# Altium footprint library CONTROLLER_PCB_LIB.PcbLib: 18 footprints (part 1 of 2)
Each footprint in its own frame and in the unit in brackets; x right, y up, seen from the top. Pads: shape width x height; smd on the part's side, far side on the other; paste and mask are expansions set on the pad; w line width, h text height; cw(c..) or ccw(c..) is an arc to the next point about the centre after c.
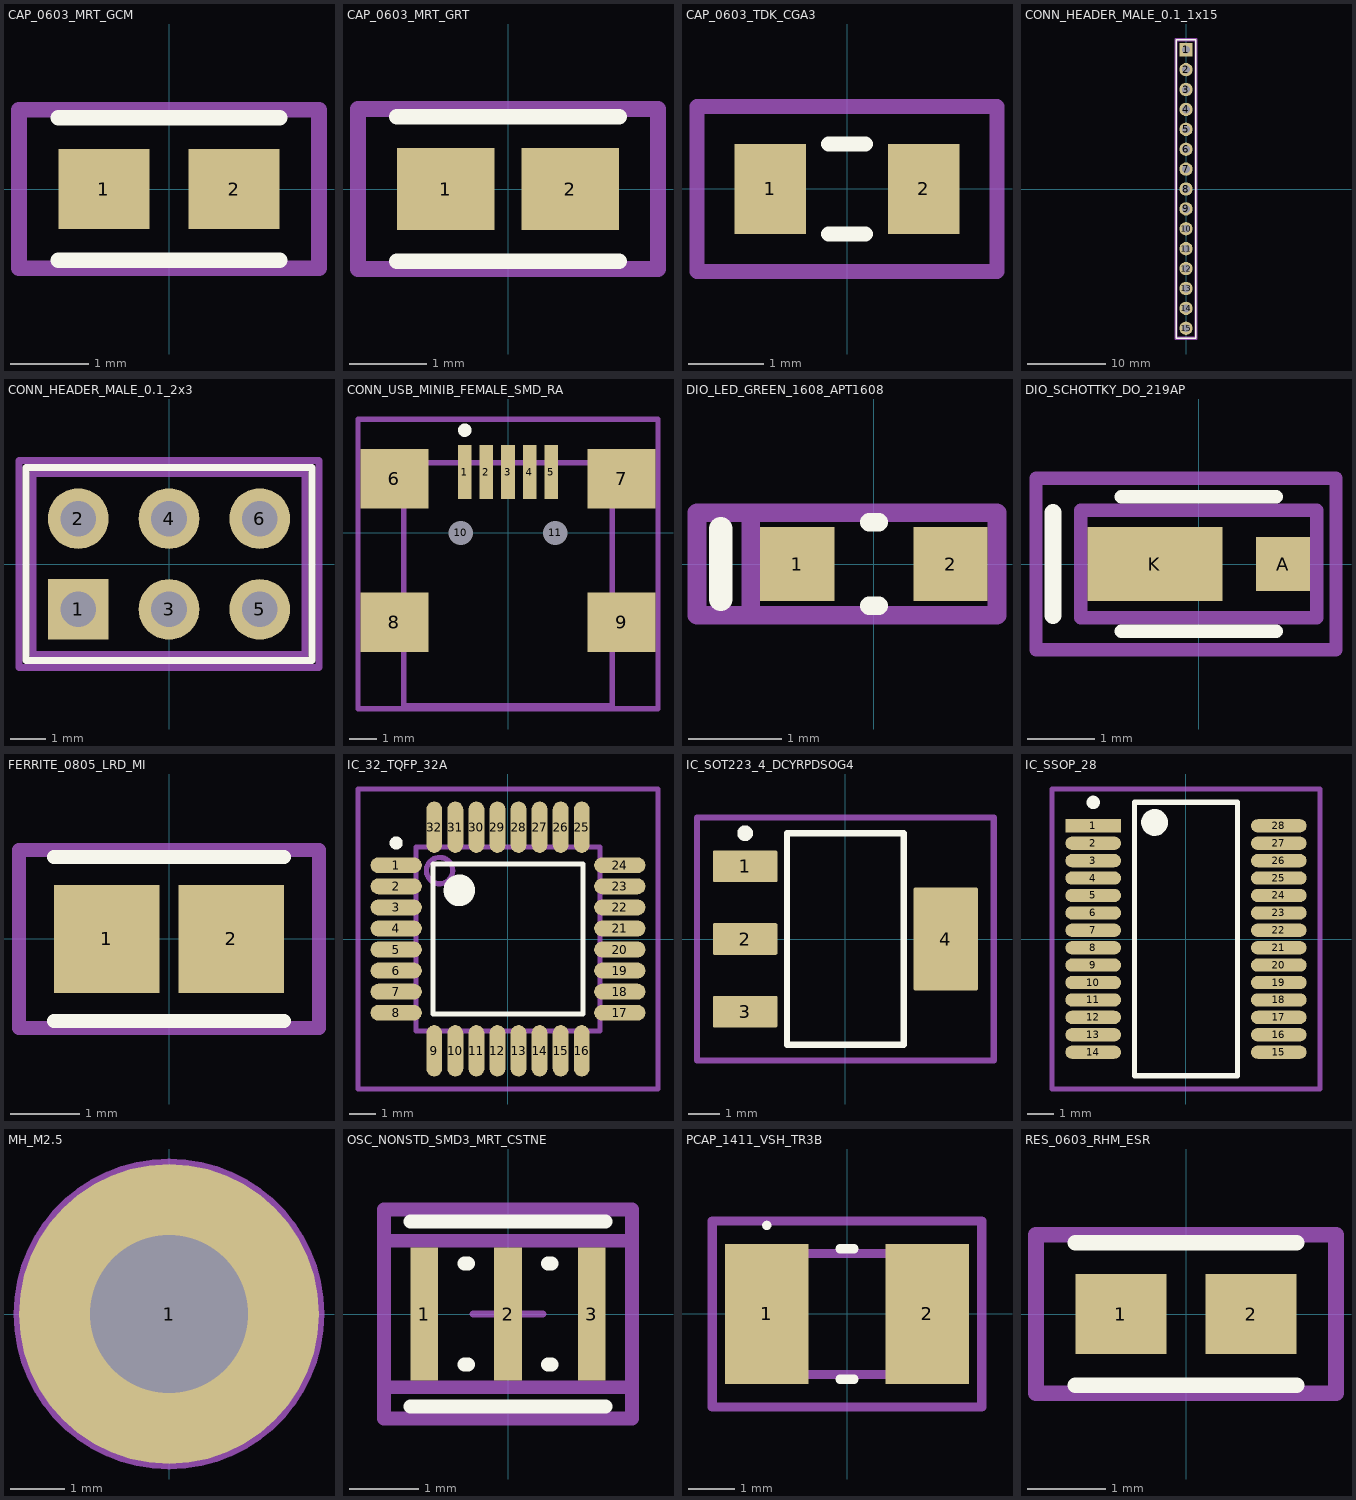
[diagram p0: the footprints below, top view; thin cyan lines are the x and y axes]

## CAP_0603_MRT_GCM [mm] "Capacitor"
height 0.8
pads (2):
  rect 1.159x1.012 smd paste+0 mask+0: 1(-0.827,0) 2(0.827,0)
Top Overlay:
  lines w0.2: -1.406,-0.906 1.406,-0.906 ; -1.406,0.906 1.406,0.906
Mechanical 5:
  lines w0.2: -1.906,-1.006 -1.906,1.006 1.906,1.006 1.906,-1.006 -1.906,-1.006
  text ".Designator" at 0,0.187 h1
Mechanical 15:
  lines w0.2: -1.906,-1.006 -1.906,1.006 1.906,1.006 1.906,-1.006 -1.906,-1.006
3D body "Cap_Murata_GCM1885C2A5R3BA16J_eec.STEP": height 0.25, standoff 0, extent -1.906,-1.006 1.906,1.006

## CAP_0603_MRT_GRT [mm] "Capacitor"
height 0.8
pads (2):
  rect 1.256x1.058 smd paste+0 mask+0: 1(-0.801,0) 2(0.801,0)
Top Overlay:
  lines w0.2: -1.429,-0.929 1.429,-0.929 ; -1.429,0.929 1.429,0.929
Mechanical 5:
  lines w0.2: -1.929,-1.029 1.929,-1.029 1.929,1.029 -1.929,1.029 -1.929,-1.029
  text ".Designator" at 0,0.187 h1
Mechanical 15:
  lines w0.2: -1.929,-1.029 1.929,-1.029 1.929,1.029 -1.929,1.029 -1.929,-1.029
3D body "Cap_Murata_GRT188R61C475KE13J_eec.STEP": height 0.25, standoff 0, extent -1.929,-1.029 1.929,1.029

## CAP_0603_TDK_CGA3 [mm] "Capacitor"
height 0.8
pads (2):
  rect 0.956x1.206 smd paste+0 mask+0: 1(-1.025,0) 2(1.025,0)
Top Overlay:
  lines w0.2: -0.247,-0.603 0.247,-0.603 ; -0.247,0.603 0.247,0.603
Mechanical 5:
  lines w0.2: -2.003,-1.103 -2.003,1.103 2.003,1.103 2.003,-1.103 -2.003,-1.103
  text ".Designator" at 0,0.187 h1
Mechanical 15:
  lines w0.2: -2.003,-1.103 -2.003,1.103 2.003,1.103 2.003,-1.103 -2.003,-1.103
3D body "Cap_TDK_CGA3E3X7R1E334K080AB_eec.STEP": height 0.25, standoff 0, extent -2.003,-1.103 2.003,1.103

## CONN_HEADER_MALE_0.1_1x15 [mm] "Connector"
height 8.38
pads (15):
  rect 1.7x1.7 hole 1: 1(0,17.78)
  round 1.7 hole 1: 2(0,15.24) 3(0,12.7) 4(0,10.16) 5(0,7.62) 6(0,5.08) 7(0,2.54) 8(0,0) 9(0,-2.54) 10(0,-5.08) 11(0,-7.62) 12(0,-10.16) 13(0,-12.7) 14(0,-15.24) 15(0,-17.78)
Top Overlay:
  lines w0.2: -1.25,-19.05 1.25,-19.05 1.25,19.05 -1.25,19.05 -1.25,-19.05
Mechanical 5:
  lines w0.2: -1.17,-18.95 1.17,-18.95 1.17,18.95 -1.17,18.95 -1.17,-18.95
  text ".Designator" at 0,0.187 h1
Mechanical 15:
  lines w0.2: -1.35,-19.15 1.35,-19.15 1.35,19.15 -1.35,19.15 -1.35,-19.15
3D body "PEC15SFAN.STEP": height 10.49, standoff -3.18, extent -1.29,-19.1 1.25,19

## CONN_HEADER_MALE_0.1_2x3 [mm] "Connector"
height 8.38
pads (6):
  rect 1.7x1.7 hole 1: 1(-2.54,-1.27)
  round 1.7 hole 1: 2(-2.54,1.27) 3(0,-1.27) 4(0,1.27) 5(2.54,-1.27) 6(2.54,1.27)
Top Overlay:
  lines w0.2: -4,-2.7 4,-2.7 4,2.7 -4,2.7 -4,-2.7
Mechanical 5:
  lines w0.2: -3.81,-2.54 3.81,-2.54 3.81,2.54 -3.81,2.54 -3.81,-2.54
  text ".Designator" at 0,0.187 h1
Mechanical 15:
  lines w0.2: -4.2,-2.9 4.2,-2.9 4.2,2.9 -4.2,2.9 -4.2,-2.9
3D body "PEC03DAAN.STEP": height 8.25, standoff -3.04, extent -3.81,-2.54 3.81,2.54

## CONN_USB_MINIB_FEMALE_SMD_RA [mm] "SMD, 5-Leads, Body 7.7x9mm, Pitch 0.8mm"
height 3.95
pads (11):
  rect 0.5x2 smd: 1(-1.6,2.25) 2(-0.8,2.25) 3(0,2.25) 4(0.8,2.25) 5(1.6,2.25)
  rect 2.5x2.2 smd: 6(-4.2,2) 7(4.2,2) 8(-4.2,-3.3) 9(4.2,-3.3)
  round 0.6 hole 0.9 unplated: 10(-1.75,0) 11(1.75,0)
Top Overlay:
  circle w0.25: c-1.6,3.8 r0.125
Mechanical 5:
  lines w0.2: -3.85,-6.4 3.85,-6.4 3.85,2.6 -3.85,2.6 -3.85,-6.4
  text ".Designator" at 0,0.187 h1
Mechanical 15:
  lines w0.2: -5.55,-6.5 5.55,-6.5 5.55,4.2 -5.55,4.2 -5.55,-6.5
3D body "SW3dPS-conn_usb_mini.STEP": height 4.6, standoff -0.5, extent -4.95,-6.4 4.95,2.6

## DIO_LED_GREEN_1608_APT1608 [mm] "Diode, Green LED"
height 0.75
pads (2):
  rect 0.8x0.8 smd paste+0 mask+0: 1(-0.825,0) 2(0.825,0)
Top Overlay:
  lines w0.2: -0.05,-0.45 0.05,-0.45 ; -0.05,0.45 0.05,0.45
  lines w0.254: -1.651,-0.381 -1.651,0.381
Mechanical 5:
  lines w0.2: -1.325,-0.55 1.325,-0.55 1.325,0.55 -1.325,0.55 -1.325,-0.55
  text ".Designator" at 0,0.187 h1
Mechanical 15:
  lines w0.2: -1.905,-0.55 1.325,-0.55 1.325,0.55 -1.905,0.55 -1.905,-0.55
3D body "Diode_Kingbright_APT1608CGCK_eec.STEP": height 0.25, standoff 0, extent -1.325,-0.55 1.325,0.55

## DIO_SCHOTTKY_DO_219AP [mm] "Diode, Schottky"
height 0.73
pads (2):
  rect 0.8x0.8 smd paste+0 mask+0: A(1.25,0)
  rect 2x1.1 smd paste+0 mask+0: K(-0.65,0)
Top Overlay:
  lines w0.2: -1.15,-1 1.15,-1 ; -1.15,1 1.15,1
  lines w0.254: -2.159,-0.762 -2.159,0.762
Mechanical 5:
  lines w0.2: -1.75,-0.8 -1.75,0.8 1.75,0.8 1.75,-0.8 -1.75,-0.8
  text ".Designator" at 0,0.187 h1
Mechanical 15:
  lines w0.2: -2.413,-1.27 -2.413,1.27 2.032,1.27 2.032,-1.27 -2.413,-1.27
3D body "Diode_Vishay_MSS1P3L-M3-89A_eec.STEP": height 0.25, standoff 0, extent -1.75,-0.8 1.75,0.8

## FERRITE_0805_LRD_MI [mm] "Ferrite Bead"
height 0.9
pads (2):
  rect 1.515x1.556 smd paste+0 mask+0: 1(-0.896,0) 2(0.896,0)
Top Overlay:
  lines w0.2: -1.653,-1.178 1.653,-1.178 ; -1.653,1.178 1.653,1.178
Mechanical 5:
  lines w0.2: -2.153,-1.278 2.153,-1.278 2.153,1.278 -2.153,1.278 -2.153,-1.278
  text ".Designator" at 0,0.187 h1
Mechanical 15:
  lines w0.2: -2.153,-1.278 2.153,-1.278 2.153,1.278 -2.153,1.278 -2.153,-1.278
3D body "FBead_Laird_MI0805K400R-10_eec.STEP": height 0.25, standoff 0, extent -2.153,-1.278 2.153,1.278

## IC_32_TQFP_32A [mm] "Thin QFP, 32-Leads, Body 7x7mm, Pitch 0.8mm, IPC Low Density"
height 1.2
pads (32):
  oval 1.95x0.6 smd: 1(-4.25,2.8) 2(-4.25,2) 3(-4.25,1.2) 4(-4.25,0.4) 5(-4.25,-0.4) 6(-4.25,-1.2) 7(-4.25,-2) 8(-4.25,-2.8) 17(4.25,-2.8) 18(4.25,-2) 19(4.25,-1.2) 20(4.25,-0.4) 21(4.25,0.4) 22(4.25,1.2) 23(4.25,2) 24(4.25,2.8)
  oval 0.6x1.95 smd: 9(-2.8,-4.25) 10(-2,-4.25) 11(-1.2,-4.25) 12(-0.4,-4.25) 13(0.4,-4.25) 14(1.2,-4.25) 15(2,-4.25) 16(2.8,-4.25) 25(2.8,4.25) 26(2,4.25) 27(1.2,4.25) 28(0.4,4.25) 29(-0.4,4.25) 30(-1.2,4.25) 31(-2,4.25) 32(-2.8,4.25)
Top Overlay:
  circle w0.6: c-1.85,1.85 r0.3
  circle w0.25: c-4.25,3.65 r0.125
  lines w0.2: -2.85,-2.85 2.85,-2.85 2.85,2.85 -2.85,2.85 -2.85,-2.85
Mechanical 5:
  circle w0.2: c-2.6,2.6 r0.5
  lines w0.2: -3.5,-3.5 3.5,-3.5 3.5,3.5 -3.5,3.5 -3.5,-3.5
  text ".Designator" at 0,0.187 h1
Mechanical 15:
  lines w0.2: -5.7,-5.7 5.7,-5.7 5.7,5.7 -5.7,5.7 -5.7,-5.7
3D body: height 1.2, standoff 0, extent -3.5,-3.5 3.5,3.5

## IC_SOT223_4_DCYRPDSOG4 [mm] "SOT223, 4-Leads, Body 6.7x3.7mm, Pitch 2.3mm, IPC Low Density"
height 1.8
pads (4):
  rrect10% 2.05x1 smd: 1(-3.175,2.3) 2(-3.175,0) 3(-3.175,-2.3)
  rrect5% 2.05x3.25 smd: 4(3.175,0)
Top Overlay:
  circle w0.25: c-3.175,3.35 r0.125
  lines w0.2: -1.85,-3.35 -1.85,3.35 1.85,3.35 1.85,-3.35 -1.85,-3.35
Mechanical 5:
  lines w0.1: -1.85,-3.35 -1.85,3.35 1.85,3.35 1.85,-3.35 -1.85,-3.35
  text ".Designator" at 0,0 h1
Mechanical 15:
  lines w0.2: -4.7,-3.85 -4.7,3.85 4.7,3.85 4.7,-3.85 -4.7,-3.85
3D body "SOT-223.stp": height 1.62, standoff -0.03, extent -3.5,-3.25 3.5,3.25

## IC_SSOP_28 [mm] "Integrated Circuit"
height 2
pads (28):
  rect 2.082x0.495 smd paste+0 mask+0: 1(-3.464,4.225)
  rrect100% 2.082x0.495 smd paste+0 mask+0: 2(-3.464,3.575) 3(-3.464,2.925) 4(-3.464,2.275) 5(-3.464,1.625) 6(-3.464,0.975) 7(-3.464,0.325) 8(-3.464,-0.325) 9(-3.464,-0.975) 10(-3.464,-1.625) 11(-3.464,-2.275) 12(-3.464,-2.925) 13(-3.464,-3.575) 14(-3.464,-4.225) 15(3.464,-4.225) 16(3.464,-3.575) 17(3.464,-2.925) 18(3.464,-2.275) 19(3.464,-1.625) 20(3.464,-0.975) 21(3.464,-0.325) 22(3.464,0.325) 23(3.464,0.975) 24(3.464,1.625) 25(3.464,2.275) 26(3.464,2.925) 27(3.464,3.575) 28(3.464,4.225)
Top Overlay:
  circle w0.25: c-3.464,5.1 r0.125
  circle w0.5: c-1.173,4.35 r0.25
  lines w0.2: -1.923,-5.1 -1.923,5.1 1.923,5.1 1.923,-5.1 -1.923,-5.1
Mechanical 5:
  lines w0.2: -5.005,-5.6 -5.005,5.6 5.005,5.6 5.005,-5.6 -5.005,-5.6
  text ".Designator" at 0,0.187 h1
Mechanical 15:
  lines w0.2: -5.005,-5.6 -5.005,5.6 5.005,5.6 5.005,-5.6 -5.005,-5.6
3D body "IC_FTDI_FT232RL-REEL_eec.STEP": height 0.25, standoff 0, extent -5.005,-5.6 5.005,5.6

## MH_M2.5 [mm] "Mounting Holes, M2.5"
pads (1):
  round 5.5 hole 2.9: 1(0,0)
Mechanical 15:
  circle w0.2: c0,0 r2.75

## OSC_NONSTD_SMD3_MRT_CSTNE [mm] "Oscillator"
height 0.9
pads (3):
  rect 0.4x1.9 smd paste+0 mask+0: 1(-1.2,0) 2(0,0) 3(1.2,0)
Top Overlay:
  lines w0.2: -1.4,-1.325 1.4,-1.325 ; -1.4,1.325 1.4,1.325 ; -0.625,-0.725 -0.575,-0.725 ; -0.625,0.725 -0.575,0.725 ; 0.575,-0.725 0.625,-0.725 ; 0.575,0.725 0.625,0.725
Mechanical 5:
  lines w0.2: -1.775,-1.05 1.775,-1.05 1.775,1.05 -1.775,1.05 -1.775,-1.05
  text ".Designator" at 0,0.187 h1
Mechanical 15:
  lines w0.2: -1.775,-1.5 1.775,-1.5 1.775,1.5 -1.775,1.5 -1.775,-1.5
Mechanical 16:
  lines w0.1: -0.5,0 0.5,0 ; 0,-0.5 0,0.5
3D body "Crys_Murata_CSTNE16M0V53C000R0_eec.STEP": height 0.25, standoff 0, extent -1.775,-1.05 1.775,1.05

## PCAP_1411_VSH_TR3B [mm] "Polarized Capacitor"
height 1.9
pads (2):
  rect 1.8x3 smd: 1(-1.725,0) 2(1.725,0)
Top Overlay:
  lines w0.1: -1.675,1.905 cw(c-1.725,1.905) -1.675,1.909
  lines w0.2: -0.15,-1.4 0.15,-1.4 ; -0.15,1.4 0.15,1.4
Mechanical 5:
  lines w0.2: -1.65,-1.3 1.65,-1.3 1.65,1.3 -1.65,1.3 -1.65,-1.3
  text ".Designator" at 0,0.187 h1
Mechanical 15:
  lines w0.2: -2.9,-2 2.9,-2 2.9,2 -2.9,2 -2.9,-2
3D body "TR3B106K025C1100.STEP": height 2.12, standoff 0.01, extent -1.854,-1.499 1.854,1.499

## RES_0603_RHM_ESR [mm] "Resistor"
height 0.3
pads (2):
  rect 1.158x1.012 smd paste+0 mask+0: 1(-0.827,0) 2(0.827,0)
Top Overlay:
  lines w0.2: -1.406,-0.906 1.406,-0.906 ; -1.406,0.906 1.406,0.906
Mechanical 5:
  lines w0.2: -1.906,-1.006 -1.906,1.006 1.906,1.006 1.906,-1.006 -1.906,-1.006
  text ".Designator" at 0,0.187 h1
Mechanical 15:
  lines w0.2: -1.906,-1.006 -1.906,1.006 1.906,1.006 1.906,-1.006 -1.906,-1.006
3D body "Res_Rohm_ESR03EZPJ101_eec.STEP": height 0.25, standoff 0, extent -1.906,-1.006 1.906,1.006